# Altium schematic symbol library 691322110002.SchLib: 1 symbol
Pins are listed as number, name and electrical type; pins without a type are passive.

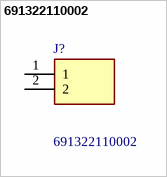
[diagram p0: symbol 691322110002]

## 691322110002
designator J?
WR-TBL Terminal block - serie 3221; Manufacturer_Name: Wurth Elektronik; Geometry.Height: 7.2mm; Manufacturer_Part_Number: 691322110002; Mouser Part Number: 710-691322110002; Mouser Price/Stock: https://www.mouser.co.uk/ProductDetail/Wurth-Elektronik/691322110002?qs=7gQLVZk5cPkDEmUnh1n5zw%3D%3D; Arrow Part Number: *; Arrow Price/Stock: *; Datasheet Link: http://katalog.we-online.de/em/datasheet/6913221100xx.pdf
footprint SHDRRA2W80P0X350_1X2_840X920X720P
pins: 1, 2